# EAGLE library part LT_3990 (library Stofer)
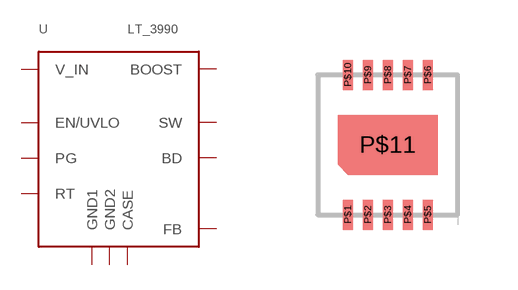
[diagram p9: symbol with the pads of DD_10_DFN; footprint DD_10_DFN]

Designator prefix -

## LT_3990DD  [DD_10_DFN]
P$1  FB
P$2  EN/UVLO
P$3  V_IN
P$4  GND1
P$5  GND2
P$6  SW
P$7  BOOST
P$8  BD
P$9  PG
P$10  RT
P$11  CASE

## Footprint DD_10_DFN (pad centres in mm)
smd 0.25 x 0.75: P$1 -1,-1.75; P$2 -0.5,-1.75; P$3 0,-1.75; P$4 0.5,-1.75; P$5 1,-1.75; P$6 1,1.75; P$7 0.5,1.75; P$8 0,1.75; P$9 -0.5,1.75; P$10 -1,1.75
smd 1.27 x 0.635: P$11 0,0